# Altium schematic symbol library USB.SchLib: 3 symbols
Pins are listed as number, name and electrical type; pins without a type are passive.

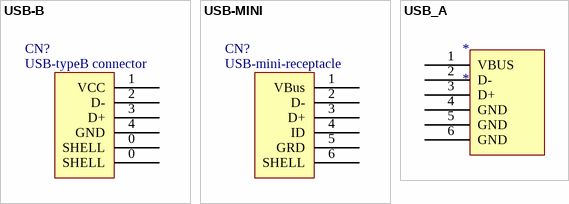
[diagram p0: symbols USB-B to USB_A]

## USB-B
designator CN?, comment USB-typeB connector
USB-B
footprint USB-B (Footprint not found)
footprint USB-F-M3
pins: 0 SHELL, 0 SHELL, 1 VCC, 2 D-, 3 D+, 4 GND

## USB-MINI
designator CN?, comment USB-mini-receptacle
USB-MINI
footprint USB_mini_B (Mini USB 座)
footprint USB_micro_AB (micro USB 座(兼容A和B))
pins: 1 VBus, 2 D-, 3 D+, 4 ID, 5 GRD, 6 SHELL

## USB_A
designator *
footprint USB_A
pins: 1 VBUS, 2 D-, 3 D+, 4 GND, 5 GND, 6 GND